# Altium footprint library DIP794W53P254L3467H457Q28N.PcbLib: 1 footprints
Each footprint in its own frame and in the unit in brackets; x right, y up, seen from the top. Pads: shape width x height; smd on the part's side, far side on the other; paste and mask are expansions set on the pad; w line width, h text height; cw(c..) or ccw(c..) is an arc to the next point about the centre after c.
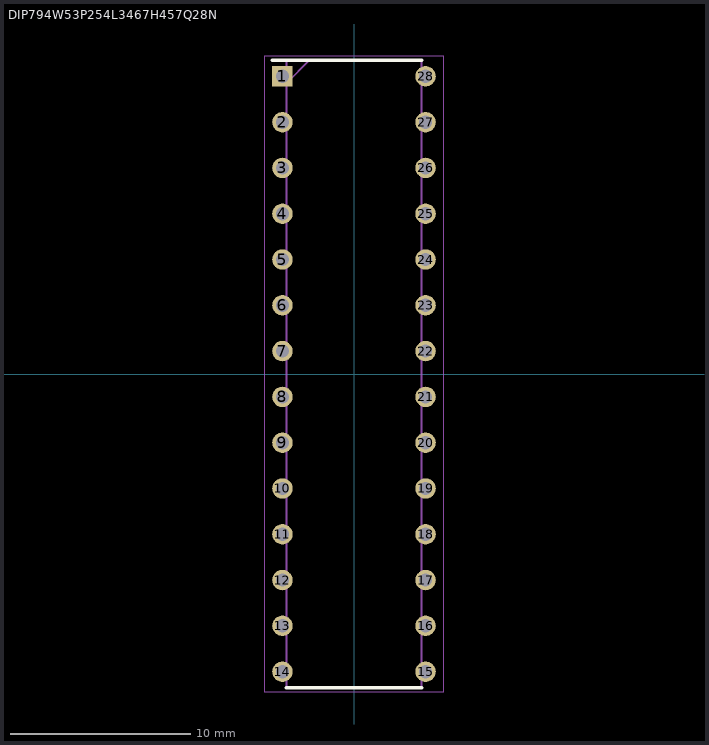
[diagram p0: the footprint, top view; thin cyan lines are the x and y axes]

## DIP794W53P254L3467H457Q28N [mil]
pads (28):
  rect 44.61x44.61 / inner round 44.61 / far side rect 44.61x44.61 hole 28.86: 1(-156.26,650)
  round 44.61 hole 28.86: 2(-156.26,550) 3(-156.26,450) 4(-156.26,350) 5(-156.26,250) 6(-156.26,150) 7(-156.26,50) 8(-156.26,-50) 9(-156.26,-150) 10(-156.26,-250) 11(-156.26,-350) 12(-156.26,-450) 13(-156.26,-550) 14(-156.26,-650) 15(156.26,-650) 16(156.26,-550) 17(156.26,-450) 18(156.26,-350) 19(156.26,-250) 20(156.26,-150) 21(156.26,-50) 22(156.26,50) 23(156.26,150) 24(156.26,250) 25(156.26,350) 26(156.26,450) 27(156.26,550) 28(156.26,650)
Top Overlay:
  lines w7.87: -178.54,685 147.48,685 ; -147.48,-685 147.48,-685
Mechanical 15:
  lines w3.94: -147.48,635 -97.48,685 ; -147.48,-685 147.48,-685 147.48,685 -147.48,685 -147.48,-685
Mechanical 20:
  lines w1.97: -194.65,-694.84 194.65,-694.84 194.65,694.84 -194.65,694.84 -194.65,-694.84